# Altium schematic symbol library PCA9501.SchLib: 1 symbol
Pins are listed as number, name and electrical type; pins without a type are passive.

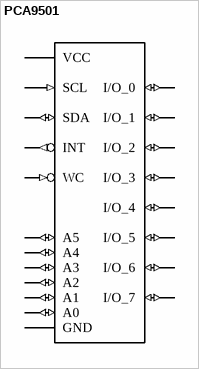
[diagram p0: symbol PCA9501]

## PCA9501
designator ?  (value not drawn)
MF: NXP Semiconductors; MP: PCA9501; Package: None; Availability: Unavailable; Price: None; Value: *
footprint TSSOP20
pins: 1 A0 (io), 2 A1 (io), 3 A2 (io), 4 I/O_0 (io), 5 I/O_1 (io), 6 I/O_2 (io), 7 I/O_3 (io), 8 INT (out), 9 A5 (io), 10 GND (power), 11 A4 (io), 12 A3 (io), 13 I/O_4 (io), 14 I/O_5 (io), 15 I/O_6 (io), 16 I/O_7 (io), 17 WC (in), 18 SCL (in), 19 SDA (io), 20 VCC (power)